# Altium footprint library adafruit.PCBLIB: 40 footprints (part 1 of 3)
Each footprint in its own frame and in the unit in brackets; x right, y up, seen from the top. Pads: shape width x height; smd on the part's side, far side on the other; paste and mask are expansions set on the pad; w line width, h text height; cw(c..) or ccw(c..) is an arc to the next point about the centre after c.
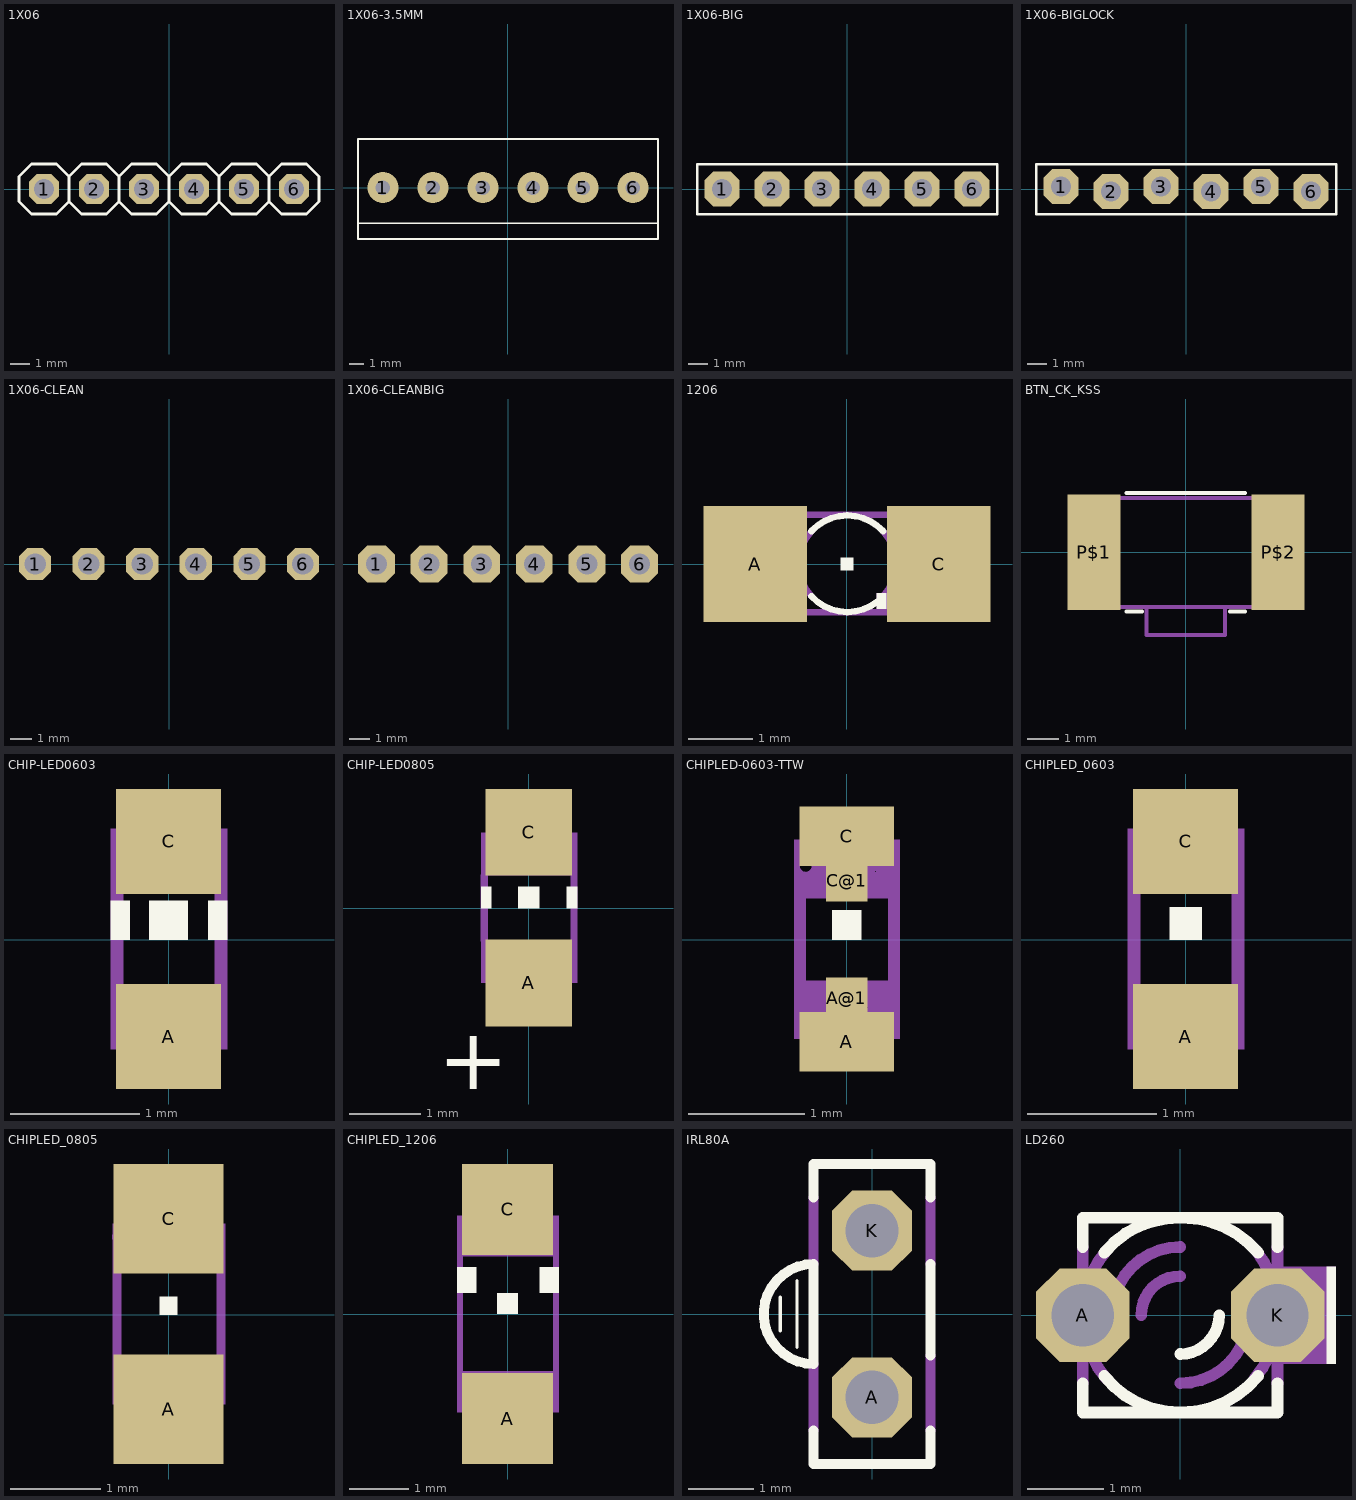
[diagram p0: the footprints below, top view; thin cyan lines are the x and y axes]

## 1X06 [mil]
pads (6):
  oct 60x60 hole 40: 1(-250,0) 2(-150,0) 3(-50,0) 4(50,0) 5(150,0) 6(250,0)
Top Overlay:
  lines w6: -200,-25 -200,25 ; -200,-25 -225,-50 -275,-50 -300,-25 -300,25 -275,50 -225,50 -200,25 ; -200,-25 -175,-50 -125,-50 -100,-25 ; -200,25 -175,50 -125,50 -100,25 ; -100,-25 -75,-50 -25,-50 0,-25 ; -100,-25 -100,25 ; -100,25 -75,50 -25,50 0,25 ; 0,-25 0,25 ; 0,-25 25,-50 75,-50 100,-25 ; 0,25 25,50 75,50 100,25 ; 100,-25 100,25 ; 100,-25 125,-50 175,-50 200,-25 ; 100,25 125,50 175,50 200,25 ; 200,-25 200,25 ; 200,-25 225,-50 275,-50 300,-25 300,25 275,50 225,50 200,25
Mechanical 16:
  rectangle: 140,-10 160,10
  rectangle: 40,-10 60,10
  rectangle: -60,-10 -40,10
  rectangle: -160,-10 -140,10
  rectangle: -260,-10 -240,10
  rectangle: 240,-10 260,10

## 1X06-3.5MM [mil]
pads (6):
  round 86 hole 40: 1(-344.49,0) 2(-206.69,0) 3(-68.9,0) 4(69,0) 5(207,0) 6(345,0)
Top Overlay:
  lines w5: -413.39,-98.43 -413.39,134 414,134 414,-98.43 ; -413.39,-98.43 -413.39,-141.73 414,-141.73 414,-98.43 ; -413.39,-98.43 414,-98.43

## 1X06-BIG [mil]
pads (6):
  oct 70x70 hole 40: 1(-250,0) 2(-150,0) 3(-50,0) 4(50,0) 5(150,0) 6(250,0)
Top Overlay:
  lines w5: -300,-50 300,-50 300,50 -300,50 -300,-50
Mechanical 16:
  rectangle: 140,-10 160,10
  rectangle: 40,-10 60,10
  rectangle: -60,-10 -40,10
  rectangle: -160,-10 -140,10
  rectangle: -260,-10 -240,10
  rectangle: 240,-10 260,10

## 1X06-BIGLOCK [mil]
pads (6):
  oct 70x70 hole 40: 1(-250,5) 2(-150,-5) 3(-50,5) 4(50,-5) 5(150,5) 6(250,-5)
Top Overlay:
  lines w5: -300,-50 300,-50 300,50 -300,50 -300,-50
Mechanical 16:
  rectangle: 140,-10 160,10
  rectangle: 40,-10 60,10
  rectangle: -60,-10 -40,10
  rectangle: -160,-10 -140,10
  rectangle: -260,-10 -240,10
  rectangle: 240,-10 260,10

## 1X06-CLEAN [mil]
pads (6):
  oct 60x60 hole 40: 1(-250,0) 2(-150,0) 3(-50,0) 4(50,0) 5(150,0) 6(250,0)
Mechanical 16:
  rectangle: 140,-10 160,10
  rectangle: 40,-10 60,10
  rectangle: -60,-10 -40,10
  rectangle: -160,-10 -140,10
  rectangle: -260,-10 -240,10
  rectangle: 240,-10 260,10

## 1X06-CLEANBIG [mil]
pads (6):
  oct 70x70 hole 40: 1(-250,0) 2(-150,0) 3(-50,0) 4(50,0) 5(150,0) 6(250,0)
Mechanical 16:
  rectangle: 140,-10 160,10
  rectangle: 40,-10 60,10
  rectangle: -60,-10 -40,10
  rectangle: -160,-10 -140,10
  rectangle: -260,-10 -240,10
  rectangle: 240,-10 260,10

## 1206 [mil]
pads (2):
  rect 63x71 smd: A(-55.98,0) C(56,0)
Top Overlay:
  rectangle: -3.94,-3.94 4,4
  rectangle: 18,-27.56 24,-17.72
  lines w4: -21.65,-19.69 ccw(c0.17,0.16) 22,-19.69 ; -21.65,20 cw(c0.17,0.16) 22,20
Mechanical 16:
  rectangle: 18,-27.56 32,-17.72
  rectangle: 32,-27.56 36,20
  rectangle: 32,22 36,28
  rectangle: -35.43,-27.56 -31.5,20
  rectangle: -35.43,22 -31.5,28
  lines w4: -21.65,-19.69 cw(c0.17,0.16) -21.65,20 ; 22,-19.69 ccw(c0.17,0.16) 22,20 ; -61.02,-29.53 62,-29.53 62,30 -61.02,30 -61.02,-29.53

## BTN_CK_KSS [mil]
pads (2):
  rect 67x146 smd: P$1(-116.14,0) P$2(117,0)
Top Overlay:
  lines w5: -74.8,-74.8 -55.12,-74.8 ; -74.8,75 75,75 ; 56,-74.8 75,-74.8
Mechanical 16:
  lines w5: -108.27,-59.25 -108.27,-68.9 -49.21,-68.9 ; -108.27,-59.25 -108.27,60 ; -108.27,-59.25 -137.8,-59.25 -137.8,60 -108.27,60 ; -108.27,60 -108.27,69 109,69 109,60 ; -49.21,-68.9 50,-68.9 ; -49.21,-68.9 -49.21,-104.33 50,-104.33 50,-68.9 ; 50,-68.9 109,-68.9 109,-59.25 ; 109,-59.25 109,60 ; 109,-59.25 138,-59.25 138,60 109,60

## CHIP-LED0603 [mil]
pads (2):
  rect 32x32 smd: A(0,-29.53) C(0,30)
Top Overlay:
  rectangle: -17.72,0 -11.81,12
  rectangle: 12,0 18,12
  rectangle: -5.91,0 6,12
Mechanical 16:
  rectangle: -17.72,18 18,34
  rectangle: -17.72,-33.46 18,-17.72
  lines w4: -15.75,-17.72 -15.75,18 ; 16,-17.72 16,18

## CHIP-LED0805 [mil]
pads (2):
  rect 48x48 smd: A(0,-41.34) C(0,42)
Top Overlay:
  rectangle: -26.57,0 -20.67,12
  rectangle: 21,0 27,12
  rectangle: -5.91,0 6,12
  text "+" at -50,-100 h34
Mechanical 16:
  rectangle: -26.57,18 27,42
  rectangle: -26.57,-41.34 27,-17.72
  lines w4: -24.61,-17.72 -24.61,18 ; 25,-18.7 25,18

## CHIPLED-0603-TTW [mil]
pads (4):
  rect 32x20 smd: A(0,-34.45) C(0,35)
  rect 14x14 smd: A@1(0,-19.68) C@1(0,20)
Top Overlay:
  rectangle: -4.92,0 5,10
Top Solder:
  rectangle: -6.89,13 7,28
  rectangle: -15.75,25 16,45
  rectangle: -15.75,-44.29 16,-24.61
  rectangle: -6.89,-26.57 7,-12.8
Mechanical 16:
  circle w2: c-13.78,25 r3
  rectangle: -17.72,28 -9.84,34
  rectangle: -10.83,22 -8.86,24
  rectangle: -17.72,14 -15.75,29
  rectangle: 10,22 18,34
  rectangle: -17.72,14 18,23
  rectangle: -17.72,-33.46 -9.84,-13.78
  rectangle: 10,-33.46 18,-13.78
  rectangle: -10.83,-22.64 11,-13.78
  rectangle: -10.83,-25.59 -6.89,-21.65
  rectangle: 7,-25.59 11,-21.65
  lines w2: -10.83,-32.48 cw(c0.09,-32.48) 11,-32.48
  lines w4: -15.75,-13.78 -15.75,15 ; -11.81,33 ccw(c0.09,33) 12,33 ; 16,-13.78 16,14

## CHIPLED_0603 [mil]
pads (2):
  rect 32x32 smd: A(0,-29.53) C(0,30)
Top Overlay:
  rectangle: -4.92,0 5,10
Mechanical 16:
  circle w2: c-13.78,25 r3
  rectangle: -17.72,28 -9.84,34
  rectangle: -10.83,22 -8.86,24
  rectangle: -17.72,14 -15.75,29
  rectangle: 10,22 18,34
  rectangle: -17.72,14 18,23
  rectangle: -17.72,-33.46 -9.84,-13.78
  rectangle: 10,-33.46 18,-13.78
  rectangle: -10.83,-22.64 11,-13.78
  rectangle: -10.83,-25.59 -6.89,-21.65
  rectangle: 7,-25.59 11,-21.65
  lines w2: -10.83,-32.48 cw(c0.09,-32.48) 11,-32.48
  lines w4: -15.75,-13.78 -15.75,15 ; -11.81,33 ccw(c0.09,33) 12,33 ; 16,-13.78 16,14

## CHIPLED_0805 [mil]
pads (2):
  rect 48x48 smd: A(0,-41.34) C(0,42)
Top Overlay:
  rectangle: -3.94,0 4,8
Mechanical 16:
  circle w4: c-17.72,34 r5
  rectangle: 12,20 25,40
  rectangle: -12.8,20 -6.89,30
  rectangle: 7,20 13,30
  rectangle: -7.87,20 8,27
  rectangle: 12,-39.37 25,-19.68
  rectangle: -24.61,-39.37 -11.81,-19.68
  rectangle: 7,-29.53 13,-19.68
  rectangle: -12.8,-29.53 -6.89,-19.68
  rectangle: -7.87,-26.57 8,-19.68
  rectangle: -23.62,20 -11.81,32
  rectangle: -24.61,37 -15.75,40
  lines w4: -22.64,-19.68 -22.64,37 ; -13.78,-39.37 cw(c0.11,-39.37) 14,-39.37 ; -13.78,40 ccw(c0.11,40) 14,40 ; 23,-20.67 23,21

## CHIPLED_1206 [mil]
pads (2):
  rect 60x60 smd: A(0,-68.9) C(0,69)
Top Overlay:
  rectangle: -33.46,14 -20.67,31
  rectangle: 21,14 34,31
  rectangle: -6.89,0 7,14
Mechanical 16:
  circle w4: c-21.65,57 r4
  rectangle: -33.46,61 -13.78,65
  rectangle: -33.46,49 -24.61,62
  rectangle: -17.72,49 -12.8,58
  rectangle: -25.59,49 -8.86,54
  rectangle: 14,52 34,65
  rectangle: 10,49 34,54
  rectangle: -33.46,38 34,50
  rectangle: -33.46,-64.96 34,-37.4
  lines w4: -31.5,-37.4 -31.5,38 ; -15.75,64 ccw(c0.13,64) 16,64 ; 32,-37.4 32,38

## IRL80A [mil]
pads (2):
  oct 48x48 hole 32: A(0,-50) K(0,50)
Top Overlay:
  lines w2: -55,-10 -55,10 ; -45,-20 -45,20
  lines w6: -35,-70 -35,-90 35,-90 35,-70 ; -35,70 -35,90 35,90 35,70 ; 35,-25 35,30 ; -35,-30 -35,30 ccw(c-35,0) -35,-30
Mechanical 16:
  lines w6: -35,-70 -35,-30 ; -35,30 -35,70 ; 35,-70 35,-25 ; 35,30 35,70

## LD260 [mil]
pads (2):
  oct 48x48 hole 32: A(-50,0) K(50,0)
Top Overlay:
  rectangle: 75,-25 80,25
  lines w6: -50,-35 -50,-50 0,-50 ; -50,35 -50,50 0,50 ; -39.04,-31.24 ccw(c0,0) 0,-50 ; -39.04,32 cw(c-0.8,0.38) 0,50 ; 0,-20 ccw(c0,0) 20,0 ; 40,-31.24 cw(c0.48,1) 0,-50 ; 40,32 ccw(c1.27,-0.61) 0,50 ; 50,-35 50,-50 0,-50 ; 50,35 50,50 0,50
Mechanical 16:
  rectangle: 50,-25 80,25
  lines w6: -50,-35 -50,0 ; -50,35 -50,0 ; -37.96,-32.54 cw(c0,0) -50,0 ; -37.96,33 ccw(c0.62,0.23) -50,0 ; -35,0 cw(c0,0) 0,35 ; -20,0 cw(c0,0) 0,20 ; 0,-35 ccw(c0,0) 35,0 ; 38,-32.93 ccw(c0.18,-0.49) 50,0 ; 39,33 cw(c-1.07,1.31) 50,0 ; 50,-35 50,0 ; 50,35 50,0